# Altium footprint library TSOP75338TR.PcbLib: 1 footprints
Each footprint in its own frame and in the unit in brackets; x right, y up, seen from the top. Pads: shape width x height; smd on the part's side, far side on the other; paste and mask are expansions set on the pad; w line width, h text height; cw(c..) or ccw(c..) is an arc to the next point about the centre after c.
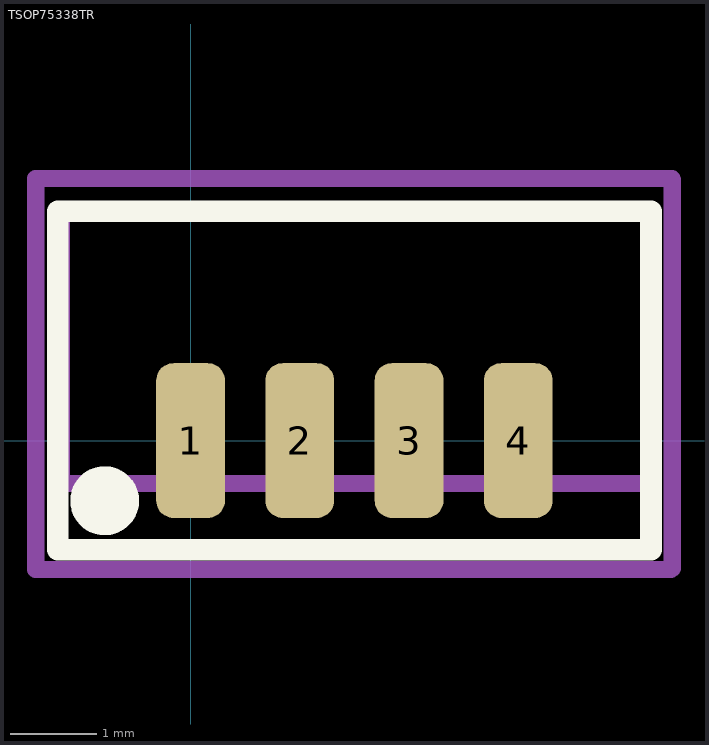
[diagram p0: the footprint, top view; thin cyan lines are the x and y axes]

## TSOP75338TR [mm]
pads (4):
  rrect50% 0.8x1.8 smd mask+0.07: 1(0,0) 2(1.27,0) 3(2.54,0) 4(3.81,0)
Top Overlay:
  circle w0.4: c-1,-0.7 r0.2
  lines w0.254: -1.545,-1.27 5.355,-1.27 5.355,2.667 -1.545,2.667 -1.545,-1.27
Mechanical 2:
  lines w0.2: -1.5,-0.478 -1.478,-0.5 5.355,-0.5 5.355,2.646 5.334,2.667 -1.478,2.667 -1.5,2.645 -1.5,-0.478
Mechanical 4:
  lines w0.2: -1.8,3.048 -1.8,1.775 -1.8,-0.175 -1.8,-0.869 -1.8,-1.056 -1.8,-1.5 5.584,-1.5 5.6,-1.484 5.6,-1.3 5.6,3.032 5.591,3.042 ; -1.787,3.048 0.059,3.048 3.751,3.048 5.597,3.048
3D body "82672Heimdall.stp": height 2.91, standoff -0.29, extent -1.545,-0.507 5.355,2.593